# EAGLE library part MAX889T-SO8 (library IC)
Hgh frequency, regulated, 200mA, inverting charge pump
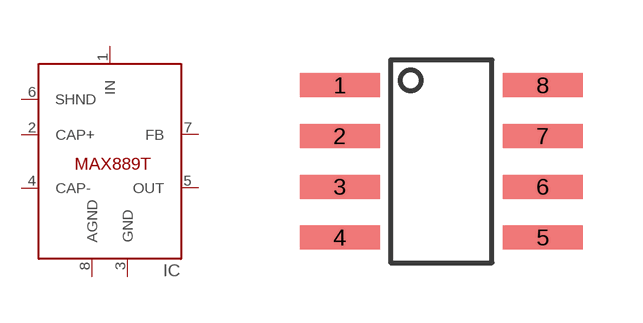
[diagram p36: symbol with the pads of SO8; footprint SO8]

Designator prefix IC

## MAX889T-SO8  [SO8]
1  IN  in
2  CAP+
3  GND  pwr
4  CAP-
5  OUT  out
6  SHND
7  FB
8  AGND  pwr

## Footprint SO8 (pad centres in mm)
smd 2 x 0.6: 1 -2.54,1.905; 2 -2.54,0.635; 3 -2.54,-0.635; 4 -2.54,-1.905; 5 2.54,-1.905; 6 2.54,-0.635; 7 2.54,0.635; 8 2.54,1.905